# Altium schematic symbol library Schlib.SchLib: 19 symbols
Pins are listed as number, name and electrical type; pins without a type are passive.

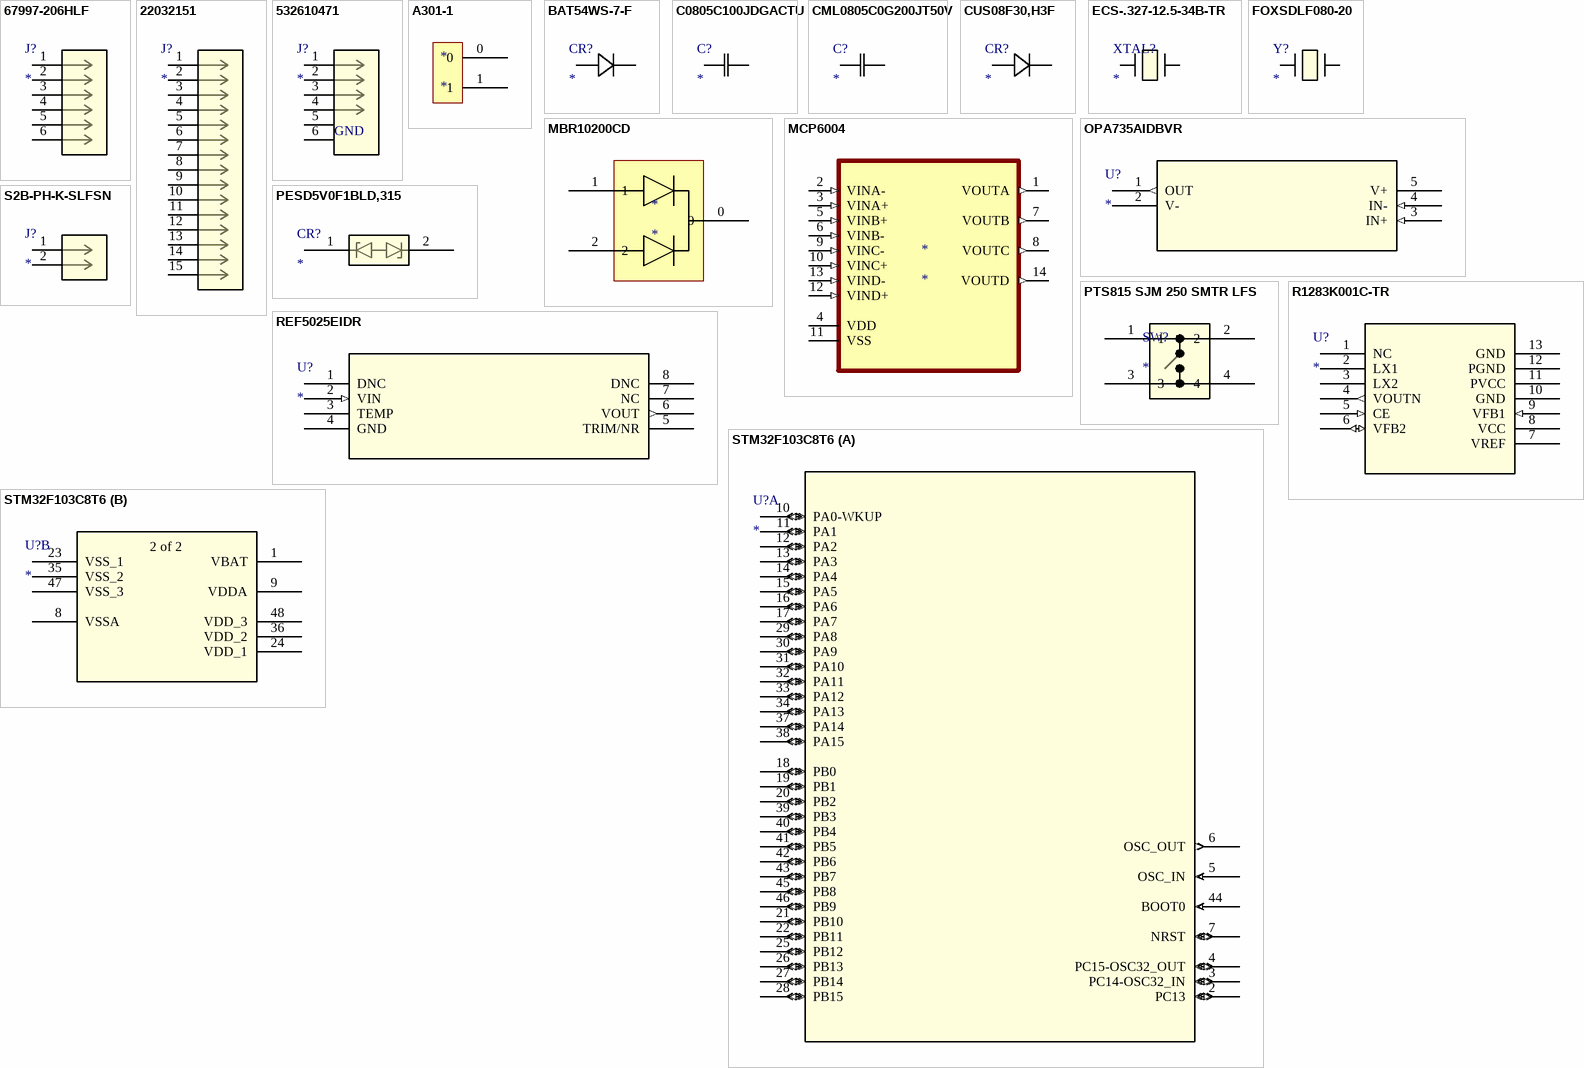
[diagram p0: symbols 67997-206HLF to STM32F103C8T6]

## 67997-206HLF
designator J?
No Description Available; Mfr_Name: Amphenol ICC; RefDes: RefDes; Type: Type
footprint 6Pins_AMP
pins: 1, 2, 3, 4, 5, 6

## 22032151
designator J?
No Description Available; Mfr_Name: Molex Connector Corporation; Type: Headers, Male Pins; RefDes: RefDes
footprint CONN15X1_22032151_MOL
pins: 1, 2, 3, 4, 5, 6, 7, 8, 9, 10, 11, 12, 13, 14, 15

## 532610471
designator J?
No Description Available; Mfr_Name: Molex Connector Corporation; RefDes: RefDes; Type: Type
footprint CONN_532610001-SD_04_MOL
pins: 1, 2, 3, 4, 5, 6
text: GND

## A301-1
designator *
footprint A301-1
pins: 0, 1

## BAT54WS-7-F
designator CR?
No Description Available; Mfr_Name: Diodes Inc
footprint SOD323_DIO
pins: 1, 2

## C0805C100JDGACTU
designator C?
No Description Available; Mfr_Name: Kemet
footprint CAPC220145_140N_KEM
pins: 1, 2

## CML0805C0G200JT50V
designator C?
No Description Available; Mfr_Name: Stackpole International
footprint CAP_CML_0805_.3pF-1500pF,4700pF_STP
pins: 1, 2

## CUS08F30,H3F
designator CR?
No Description Available; Mfr_Name: Toshiba Electronic Devices & Storage Corp.
footprint USC_TOS
pins: 1 cathode, 2 anode

## ECS-.327-12.5-34B-TR
designator XTAL?
No Description Available; Mfr_Name: ECS International
footprint XTAL_ECS-31B_ECS
pins: 1, 2

## FOXSDLF080-20
designator Y?
No Description Available; Mfr_Name: Fox; Digi-Key_Part_Number_3: 631-1010-6-ND; Digi-Key_Part_Number_2: 631-1010-2-ND; Digi-Key_Part_Number_1: 631-1010-1-ND
footprint CRYSTAL_HC49SDLF_FXT
pins: 1, 2

## MBR10200CD
designator *
footprint TO-252AA
pins: 0, 1, 2

## MCP6004
designator *
footprint SOP65P640X120-14N
pins: 1 VOUTA (out), 2 VINA- (in), 3 VINA+ (in), 4 VDD (power), 5 VINB+ (in), 6 VINB- (in), 7 VOUTB (out), 8 VOUTC (out), 9 VINC- (in), 10 VINC+ (in), 11 VSS, 12 VIND+ (in), 13 VIND- (in), 14 VOUTD (out)

## OPA735AIDBVR
designator U?
No Description Available; Mfr_Name: Texas Instruments; RefDes: RefDes; Type: Type
footprint DBV5
footprint DBV5-L
footprint DBV5-M
pins: 1 OUT (out), 2 V- (power), 3 IN+ (in), 4 IN- (in), 5 V+ (power)

## PESD5V0F1BLD,315
designator CR?
No Description Available; Mfr_Name: Nexperia; RefDes: RefDes; Type: Type
footprint DFN1006D-2_SOD882D_NEX
pins: 1, 2

## PTS815 SJM 250 SMTR LFS
designator SW?
No Description Available; Mfr_Name: C&K Components; RefDes: RefDes; Type: Type
footprint SW4_PTS815 SJM 250 SMTR LFS_CNK
pins: 1, 2, 3, 4

## R1283K001C-TR
designator U?
No Description Available; Mfr_Name: Nisshinbo Micro Devices; Type: Power Management; RefDes: RefDes
footprint PE-DFNPL2730-12-180404_NMD
pins: 1 NC, 2 LX1 (power), 3 LX2 (power), 4 VOUTN (out), 5 CE (in), 6 VFB2 (io), 7 VREF (power), 8 VCC (power), 9 VFB1 (in), 10 GND (power), 11 PVCC (power), 12 PGND (power), 13 GND (power)

## REF5025EIDR
designator U?
No Description Available; Mfr_Name: Texas Instruments; RefDes: RefDes; Type: Type
footprint D8
footprint D8-L
footprint D8-M
pins: 1 DNC, 2 VIN (in), 3 TEMP, 4 GND, 5 TRIM/NR, 6 VOUT (out), 7 NC, 8 DNC

## S2B-PH-K-SLFSN
designator J?
No Description Available; Mfr_Name: JST; RefDes: RefDes; Type: Type
footprint CONN_S2B-PH-K-S_JST
pins: 1, 2

## STM32F103C8T6
designator U?
No Description Available; Mfr_Name: STMicroelectronics; RefDes: RefDes; Type: Type
footprint LQFP48_STM
part A pins: 2 PC13 (io), 3 PC14-OSC32_IN (io), 4 PC15-OSC32_OUT (io), 5 OSC_IN (in), 6 OSC_OUT (out), 7 NRST (io), 10 PA0-WKUP (io), 11 PA1 (io), 12 PA2 (io), 13 PA3 (io), 14 PA4 (io), 15 PA5 (io), 16 PA6 (io), 17 PA7 (io), 18 PB0 (io), 19 PB1 (io), 20 PB2 (io), 21 PB10 (io), 22 PB11 (io), 25 PB12 (io), 26 PB13 (io), 27 PB14 (io), 28 PB15 (io), 29 PA8 (io), 30 PA9 (io), 31 PA10 (io), 32 PA11 (io), 33 PA12 (io), 34 PA13 (io), 37 PA14 (io), 38 PA15 (io), 39 PB3 (io), 40 PB4 (io), 41 PB5 (io), 42 PB6 (io), 43 PB7 (io), 44 BOOT0 (in), 45 PB8 (io), 46 PB9 (io)
part B pins: 1 VBAT (power), 8 VSSA (power), 9 VDDA (power), 23 VSS_1 (power), 24 VDD_1 (power), 35 VSS_2 (power), 36 VDD_2 (power), 47 VSS_3 (power), 48 VDD_3 (power)
part B text: 2 of 2